# EAGLE library part TOUCH-CAT_COM-TOUCH-CAT (library Touch.Cat)
COM - Touch Cat Copyrights: www.touch.cat If modified stay original creator www.touch.cat
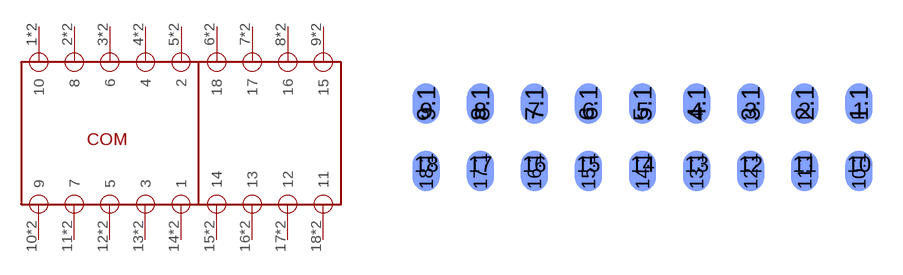
[diagram p1: symbol with the pads of TOUCH-CAT_COM; footprint TOUCH-CAT_COM]

Designator prefix -

## TOUCH-CAT_COM-TOUCH-CAT  [TOUCH-CAT_COM]
1  10
1.1  10
2  8
2.1  8
3  6
3.1  6
4  4
4.1  4
5  2
5.1  2
6  18
6.1  18
7  17
7.1  17
8  16
8.1  16
9  15
9.1  15
10  9
10.1  9
11  7
11.1  7
12  5
12.1  5
13  3
13.1  3
14  1
14.1  1
15  14
15.1  14
16  13
16.1  13
17  12
17.1  12
18  11
18.1  11

## Footprint TOUCH-CAT_COM (pad centres in mm)
drill 0.6: 1 8.89,1.27; 2 6.35,1.27; 3 3.81,1.27; 4 1.27,1.27; 5 -1.27,1.27; 6 -3.81,1.27; 7 -6.35,1.27; 8 -8.89,1.27; 9 -11.43,1.27; 10 8.89,-1.27; 11 6.35,-1.27; 12 3.81,-1.27; 13 1.27,-1.27; 14 -1.27,-1.27; 15 -3.81,-1.27; 16 -6.35,-1.27; 17 -8.89,-1.27; 18 -11.43,-1.27
smd 1.27 x 1.905 bottom: 1.1 8.89,1.587; 2.1 6.35,1.587; 3.1 3.81,1.587; 4.1 1.27,1.587; 5.1 -1.27,1.587; 6.1 -3.81,1.587; 7.1 -6.35,1.587; 8.1 -8.89,1.587; 9.1 -11.43,1.587; 10.1 8.89,-1.587; 11.1 6.35,-1.587; 12.1 3.81,-1.587; 13.1 1.27,-1.587; 14.1 -1.27,-1.587; 15.1 -3.81,-1.587; 16.1 -6.35,-1.587; 17.1 -8.89,-1.587; 18.1 -11.43,-1.587